# Altium footprint library active.PcbLib: 3 footprints
Each footprint in its own frame and in the unit in brackets; x right, y up, seen from the top. Pads: shape width x height; smd on the part's side, far side on the other; paste and mask are expansions set on the pad; w line width, h text height; cw(c..) or ccw(c..) is an arc to the next point about the centre after c.
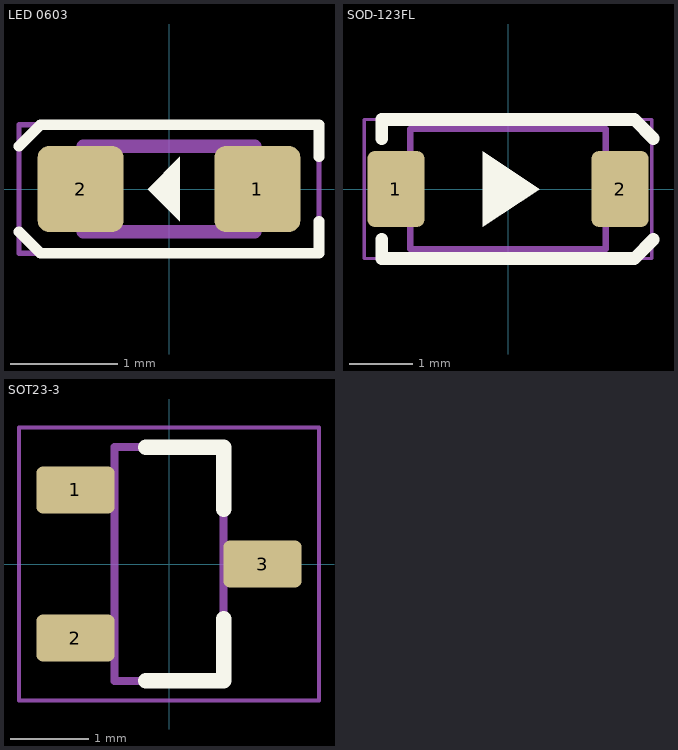
[diagram p0: the footprints below, top view; thin cyan lines are the x and y axes]

## LED 0603 [mm]
height 0.55
pads (2):
  rrect25% 0.8x0.8 smd: 1(0.825,0) 2(-0.825,0)
Top Overlay:
  region: 0.1,0.3 0.1,-0.3 -0.2,0
  lines w0.1: -1.4,-0.4 -1.2,-0.6 1.4,-0.6 1.4,-0.3 ; -1.4,0.4 -1.2,0.6 1.4,0.6 1.4,0.3
Mechanical 13:
  lines w0.127: -0.8,-0.4 -0.8,0.4 0.8,0.4 0.8,-0.4 -0.8,-0.4
Mechanical 15:
  lines w0.05: -1.4,-0.6 -1.4,0.6 1.4,0.6 1.4,-0.6 -1.4,-0.6
3D body "step_temp.STEP": height 0.55, standoff 0, extent -0.8,-0.4 0.8,0.4

## SOD-123FL [mm] "SODFL, 2-Leads, Body 1.65x3.58mm, IPC Medium Density"
height 1.35
pads (2):
  rrect25% 0.9x1.2 smd: 1(-1.775,0) 2(1.775,0)
Top Overlay:
  region: -0.4,-0.6 -0.4,0.6 0.5,0
  lines w0.2: -2,-0.8 -2,-1.1 2,-1.1 2.3,-0.8 ; -2,0.8 -2,1.1 2,1.1 2.3,0.8
Mechanical 13:
  lines w0.1: -1.55,-0.95 -1.55,0.95 1.55,0.95 1.55,-0.95 -1.55,-0.95
Mechanical 15:
  lines w0.05: -2.275,-1.1 -2.275,1.1 2.275,1.1 2.275,-1.1 -2.275,-1.1
3D body "SOD-123FL.step": height 1.35, standoff 0, extent -1.787,-0.95 1.787,0.95

## SOT23-3 [mm] "SOT23, 3-Leads, Body 2.90x2.45mm, Pitch 0.95mm, IPC Medium Density"
height 1.1
pads (3):
  rrect25% 1x0.6 smd: 1(-1.2,0.95) 2(-1.2,-0.95) 3(1.2,0)
Top Overlay:
  lines w0.2: -0.3,-1.5 0.7,-1.5 0.7,-0.7 ; -0.3,1.5 0.7,1.5 0.7,0.7
Mechanical 13:
  lines w0.1: -0.7,-1.5 -0.7,1.5 0.7,1.5 0.7,-1.5 -0.7,-1.5
Mechanical 15:
  lines w0.05: -1.925,-1.75 -1.925,1.75 1.925,1.75 1.925,-1.75 -1.925,-1.75
3D body "SOT23-3.step": height 1.1, standoff 0, extent -1.3,-1.5 1.3,1.5